# Altium schematic symbol library BUK6Y10-30PX.SchLib: 1 symbol
Pins are listed as number, name and electrical type; pins without a type are passive.

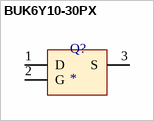
[diagram p0: symbol BUK6Y10-30PX]

## BUK6Y10-30PX
designator Q?
footprint TO127P600X120-5N
pins: 1 D, 2 G, 3 S